# Altium schematic symbol library Res1W4.SchLib: 1 symbol
Pins are listed as number, name and electrical type; pins without a type are passive.

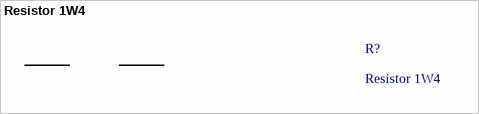
[diagram p0: symbol Resistor 1W4]

## Resistor 1W4
designator R?
footprint PCBComponent_1
pins: 1, 2